# Altium footprint library Connectors.PcbLib: 2 footprints
Each footprint in its own frame and in the unit in brackets; x right, y up, seen from the top. Pads: shape width x height; smd on the part's side, far side on the other; paste and mask are expansions set on the pad; w line width, h text height; cw(c..) or ccw(c..) is an arc to the next point about the centre after c.
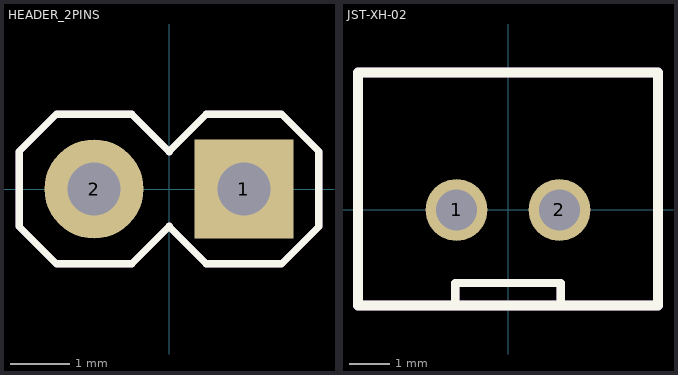
[diagram p0: the footprints below, top view; thin cyan lines are the x and y axes]

## HEADER_2PINS [mil]
pads (2):
  rect 66x66 hole 35.43: 1(50,0)
  round 66 hole 35.43: 2(-50,0)
Top Overlay:
  lines w5: -100,-25 -75,-50 -25,-50 0,-25 25,-50 75,-50 100,-25 100,25 75,50 25,50 0,25 -25,50 -75,50 -100,25 -100,-25
Mechanical 2:
  lines w5: -100,-25 -75,-50 -25,-50 0,-25 25,-50 75,-50 100,-25 100,25 75,50 25,50 0,25 -25,50 -75,50 -100,25 -100,-25
3D body "HEADER_2PINS.STEP": height 330, standoff -100, extent -102.5,-50 102.5,50

## JST-XH-02 [mil]
pads (2):
  round 60 hole 40: 1(-50,0) 2(50,0)
Top Overlay:
  lines w7.87: -51.18,-90.55 -51.18,-70.87 51.18,-70.87 51.18,-90.55
  lines w10: -145.67,-92.82 -145.67,133.56 145.67,133.56 145.67,-92.82 -145.67,-92.82
Mechanical 2:
  lines w7.87: -51.18,-90.55 -51.18,-70.87 51.18,-70.87 51.18,-90.55
  lines w10: -145.67,-92.82 145.67,-92.82 145.67,133.56 -145.67,133.56 -145.67,-92.82
3D body "JST-XH-02.STEP": height 275.59, standoff -133.86, extent -145.67,-95 145.67,131.38